# Altium schematic symbol library UUR1C221MNL1GS.SchLib: 1 symbol
Pins are listed as number, name and electrical type; pins without a type are passive.

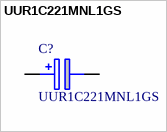
[diagram p0: symbol UUR1C221MNL1GS]

## UUR1C221MNL1GS
designator C?
Nichicon 220uF 16V dc Aluminium Electrolytic Capacitor, Surface Mount 8 (Dia.) x 10mm +85C 8mm; Geometry.Height: 10.5mm; Manufacturer_Name: Nichicon; Manufacturer_Part_Number: UUR1C221MNL1GS; Mouser Part Number: 647-UUR1C221MNL1GS; Mouser Price/Stock: https://www.mouser.co.uk/ProductDetail/Nichicon/UUR1C221MNL1GS?qs=%252BzEQ4sV6YNnDp6ENSFi1fw%3D%3D; Arrow Part Number: UUR1C221MNL1GS; Arrow Price/Stock: https://www.arrow.com/en/products/uur1c221mnl1gs/nichicon; Mouser Testing Part Number: *; Mouser Testing Price/Stock: *; Datasheet Link: http://www.nichicon.co.jp/english/products/pdfs/e-uur.pdf
footprint CAPAE830X1050N
pins: 1 +, 2 -